# Altium integrated library Component_2.IntLib: 14 symbols (part 1 of 2)
Pins are listed as number, name and electrical type; pins without a type are passive.

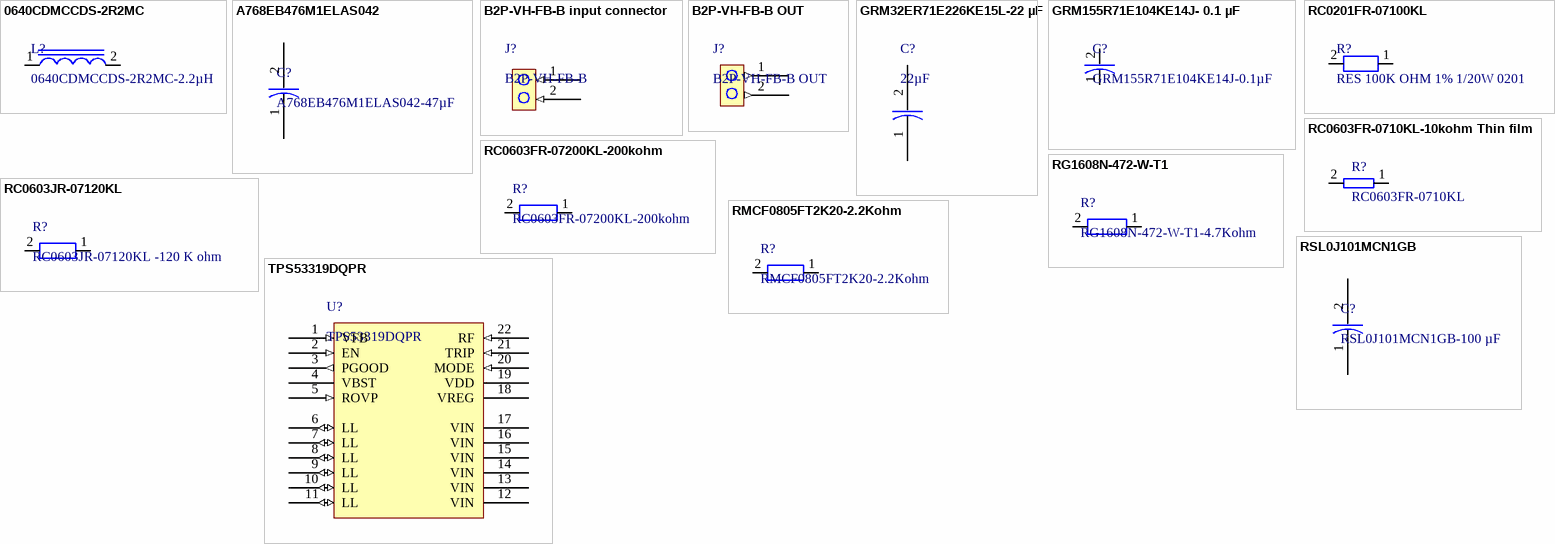
[diagram p0: symbols 0640CDMCCDS-2R2MC to TPS53319DQPR]

## 0640CDMCCDS-2R2MC
designator L?, comment 0640CDMCCDS-2R2MC-2.2µH
Inductor Power Shielded/Molded Wirewound 2.2uH 20% 100KHz Metal 12A 0.0108Ohm DCR T/R; Manufacturer: Sumida; DC Resistance (DCR): 10.8mΩ; Value: 2.2µH; Number of Circuits: 1; Supplier: DigiKey; Supplier Part Number: 308-0640CDMCCDS-2R2MCCT-ND; Manufacturer Part Number: 0640CDMCCDS-2R2MC; RoHS: Compliant; Category: Fixed Inductors; Stock: 4702; Pricing: 1=0.78, 10=0.642, 100=0.5283 (USD); Case/Package: 2826; Height: 3.8mm; Length: 7mm; Lifecycle Status: Production; Max Current Rating: 12A; Max Operating Temperature: 125°C; Min Operating Temperature: -55°C; Number of Terminals: 2; Shielding: Shielded; Test Frequency: 100kHz; Tolerance: 20%; Width: 6.6mm; ComponentLink1URL: https://datasheet.octopart.com:443/0640CDMCCDS-2R2MC-Sumida-datasheet-181250634.pdf?src-supplier=IHS; ComponentLink1Description: https://datasheet.octopart.com:443/0640CDMCCDS-2R2MC-Sumida-datasheet-181250634.pdf?src-supplier=IHS; Supplier 1: DigiKey; Supplier Part Number 1: 308-0640CDMCCDS-2R2MCCT-ND
footprint 0640CDMCCDS-2R2MC-2.2uh Metal molding inductor (Molded Inductor, 2-Leads, Body 7.25x6.50mm, IPC Medium Density)
pins: 1, 2

## A768EB476M1ELAS042
designator C?, comment A768EB476M1ELAS042-47µF
Tant Poly Cap, 47 Uf, 25V, 1.175A, Solder Rohs Compliant: Yes |Kemet A768EB476M1ELAS042; Manufacturer: Yageo Group; Value: 47µF; ESR (Equivalent Series Resistance): 42mΩ; Leakage Current: 235µA; Ripple Current: 58.75mA; ComponentLink6URL: https://datasheet.octopart.com:443/EEHZK1E471P-Panasonic-datasheet-137716607.pdf?src-supplier=TME; ComponentLink6Description: https://datasheet.octopart.com:443/EEHZK1E471P-Panasonic-datasheet-137716607.pdf?src-supplier=TME; Supplier: DigiKey; Supplier Part Number: 399-A768EB476M1ELAS042CT-ND; Manufacturer Part Number: A768EB476M1ELAS042; RoHS: Compliant; Category: Aluminum Electrolytic Capacitors; Stock: 8816; Pricing: 1=0.54, 10=0.337, 50=0.2494, 100=0.2218, 500=0.17396 (USD); Export Control Classification Number (ECCN) Code: EAR99; Height: 5.7mm; Introduction Date: 2020-02-04; Length: 6.6mm; Lifecycle Status: Production; Max Operating Temperature: 125°C; Min Operating Temperature: -55°C; Mounting Technology: Surface Mount; Number of Terminals: 2; Ratings: AEC-Q200; REACH SVHC: Yes; Voltage Rating (DC): 25V; Width: 6.6mm; ComponentLink1URL: https://datasheet.octopart.com:443/A768EB476M1ELAS042-KEMET-datasheet-182036773.pdf?src-supplier=IHS; ComponentLink1Description: https://datasheet.octopart.com:443/A768EB476M1ELAS042-KEMET-datasheet-182036773.pdf?src-supplier=IHS; ComponentLink2URL: https://datasheet.octopart.com:443/A768EB476M1ELAS042-KEMET-datasheet-192944601.pdf?src-supplier=element14+APAC; ComponentLink2Description: https://datasheet.octopart.com:443/A768EB476M1ELAS042-KEMET-datasheet-192944601.pdf?src-supplier=element14+APAC; Supplier 1: DigiKey; Supplier Part Number 1: 399-A768EB476M1ELAS042CT-ND
footprint A768EB476M1ELAS042 -47uf ceramic capacitor
pins: 1, 2

## B2P-VH-FB-B input connector
designator J?, comment B2P-VH-FB-B
Conn Shrouded Header (4 Sides) HDR 2 POS 3.96mm Solder ST Top Entry Thru-Hole Box; Manufacturer: JST; Manufacturer Part Number: B2P-VH-FB-B(LF)(SN); Connector Type: Male Pin; Current Rating: 10A; Gender: Male; Number of Contacts: 2; Pitch: 3.9624mm; Voltage Rating: 250V; Supplier 1: Future Electronics; Supplier Part Number 1: B2P-VH-FB-B(LF)(SN); Supplier: Future Electronics; Supplier Part Number: B2P-VH-FB-B(LF)(SN); RoHS: Compliant; Category: Headers and Wire Housings; Stock: 2504; Pricing: 250=0.11, 1000=0.106, 2500=0.104, 6250=0.101, 10000=0.0975 (USD); China RoHS: Compliant; Color: Natural; Contact Material: Brass; Contact Plating: Tin; Country of Origin: Indonesia; Export Control Classification Number (ECCN) Code: EAR99; Fastening Type: Ramp; Height: 11mm; Harmonized Tariff Schedule (HTS) Code: 8536.69.40.40; Introduction Date: 2010-03-26; Lead Free: Lead Free; Lifecycle Status: Production; Max Operating Temperature: 85°C; Min Operating Temperature: -25°C; Mounting Technology: Through Hole; Pins: 2; Number of Positions: 2; Number of Rows: 1; Orientation: Straight; REACH SVHC: Yes; Terminal Pitch: 3.96mm; Termination: Solder; ComponentLink1URL: https://datasheet.octopart.com:443/B2P-VH-FB-B%28LF%29%28SN%29-JST-datasheet-41193408.pdf?src-supplier=IHS; ComponentLink1Description: https://datasheet.octopart.com:443/B2P-VH-FB-B%28LF%29%28SN%29-JST-datasheet-41193408.pdf?src-supplier=IHS; ComponentLink2URL: https://datasheet.octopart.com:443/B2P-VH-FB-B%28LF%29%28SN%29-JST-datasheet-151658475.pdf?src-supplier=LKR; ComponentLink2Description: https://datasheet.octopart.com:443/B2P-VH-FB-B%28LF%29%28SN%29-JST-datasheet-151658475.pdf?src-supplier=LKR; ComponentLink3URL: https://datasheet.octopart.com:443/B2P-VH-FB-B%28LF%29%28SN%29-JST-datasheet-12513069.pdf?src-supplier=Future+Electronics; ComponentLink3Description: https://datasheet.octopart.com:443/B2P-VH-FB-B%28LF%29%28SN%29-JST-datasheet-12513069.pdf?src-supplier=Future+Electronics; ComponentLink4URL: https://datasheet.octopart.com:443/B2P-VH-FB-B%28LF%29%28SN%29-JST-datasheet-10025879.pdf?src-supplier=Future+Electronics; ComponentLink4Description: https://datasheet.octopart.com:443/B2P-VH-FB-B%28LF%29%28SN%29-JST-datasheet-10025879.pdf?src-supplier=Future+Electronics; ComponentLink5URL: https://datasheet.octopart.com:443/B2P-VH-FB-B%28LF%29%28SN%29-JST-datasheet-5332680.pdf?src-supplier=Future+Electronics; ComponentLink5Description: https://datasheet.octopart.com:443/B2P-VH-FB-B%28LF%29%28SN%29-JST-datasheet-5332680.pdf?src-supplier=Future+Electronics; ComponentLink6URL: https://datasheet.octopart.com:443/B2P-VH-FB-B%28LF%29%28SN%29-JST-datasheet-16979.pdf?src-supplier=Future+Electronics; ComponentLink6Description: https://datasheet.octopart.com:443/B2P-VH-FB-B%28LF%29%28SN%29-JST-datasheet-16979.pdf?src-supplier=Future+Electronics
footprint B2P-VH-FB-B input -2 pin connector.
pins: 1 (in), 2 (in)

## B2P-VH-FB-B OUT
designator J?
Conn Shrouded Header (4 Sides) HDR 2 POS 3.96mm Solder ST Top Entry Thru-Hole Box; Manufacturer: JST; Manufacturer Part Number: B2P-VH-FB-B(LF)(SN); Connector Type: Male Pin; Current Rating: 10A; Gender: Male; Number of Contacts: 2; Pitch: 3.9624mm; Voltage Rating: 250V; Supplier: Future Electronics; Supplier Part Number: B2P-VH-FB-B(LF)(SN); RoHS: Compliant; Category: Headers and Wire Housings; Stock: 2504; Pricing: 250=0.11, 1000=0.106, 2500=0.104, 6250=0.101, 10000=0.0975 (USD); China RoHS: Compliant; Color: Natural; Contact Material: Brass; Contact Plating: Tin; Country of Origin: Indonesia; Export Control Classification Number (ECCN) Code: EAR99; Fastening Type: Ramp; Height: 11mm; Harmonized Tariff Schedule (HTS) Code: 8536.69.40.40; Introduction Date: 2010-03-26; Lead Free: Lead Free; Lifecycle Status: Production; Max Operating Temperature: 85°C; Min Operating Temperature: -25°C; Mounting Technology: Through Hole; Pins: 2; Number of Positions: 2; Number of Rows: 1; Orientation: Straight; REACH SVHC: Yes; Terminal Pitch: 3.96mm; Termination: Solder; ComponentLink1URL: https://datasheet.octopart.com:443/B2P-VH-FB-B%28LF%29%28SN%29-JST-datasheet-41193408.pdf?src-supplier=IHS; ComponentLink1Description: https://datasheet.octopart.com:443/B2P-VH-FB-B%28LF%29%28SN%29-JST-datasheet-41193408.pdf?src-supplier=IHS; ComponentLink2URL: https://datasheet.octopart.com:443/B2P-VH-FB-B%28LF%29%28SN%29-JST-datasheet-151658475.pdf?src-supplier=LKR; ComponentLink2Description: https://datasheet.octopart.com:443/B2P-VH-FB-B%28LF%29%28SN%29-JST-datasheet-151658475.pdf?src-supplier=LKR; ComponentLink3URL: https://datasheet.octopart.com:443/B2P-VH-FB-B%28LF%29%28SN%29-JST-datasheet-12513069.pdf?src-supplier=Future+Electronics; ComponentLink3Description: https://datasheet.octopart.com:443/B2P-VH-FB-B%28LF%29%28SN%29-JST-datasheet-12513069.pdf?src-supplier=Future+Electronics; ComponentLink4URL: https://datasheet.octopart.com:443/B2P-VH-FB-B%28LF%29%28SN%29-JST-datasheet-10025879.pdf?src-supplier=Future+Electronics; ComponentLink4Description: https://datasheet.octopart.com:443/B2P-VH-FB-B%28LF%29%28SN%29-JST-datasheet-10025879.pdf?src-supplier=Future+Electronics; ComponentLink5URL: https://datasheet.octopart.com:443/B2P-VH-FB-B%28LF%29%28SN%29-JST-datasheet-5332680.pdf?src-supplier=Future+Electronics; ComponentLink5Description: https://datasheet.octopart.com:443/B2P-VH-FB-B%28LF%29%28SN%29-JST-datasheet-5332680.pdf?src-supplier=Future+Electronics; ComponentLink6URL: https://datasheet.octopart.com:443/B2P-VH-FB-B%28LF%29%28SN%29-JST-datasheet-16979.pdf?src-supplier=Future+Electronics; ComponentLink6Description: https://datasheet.octopart.com:443/B2P-VH-FB-B%28LF%29%28SN%29-JST-datasheet-16979.pdf?src-supplier=Future+Electronics; Supplier 1: Future Electronics; Supplier Part Number 1: B2P-VH-FB-B(LF)(SN)
footprint B2P-VH-FB-B OUT-2 pin connector.
pins: 1 (out), 2 (out)

## GRM32ER71E226KE15L-22 µF
designator C?, comment 22µF
25V 22µF X7R ±10% 1210 Multilayer Ceramic Capacitors MLCC - SMD/SMT ROHS; Manufacturer: Murata; Manufacturer Part Number: GRM32ER71E226KE15L; Manufacturer Lifecycle Status: IN PRODUCTION; Color: Black; Current Rating: 3A; Gender: Male; Supplier: DigiKey; Supplier Part Number: 490-5313-6-ND; RoHS: Compliant; Category: Ceramic Capacitors; Stock: 107975; Pricing: 1=0.76, 10=0.477, 50=0.3648, 100=0.3303, 500=0.27204 (USD); Value: 22µF; Case/Package: 1210; Case Code (Imperial): 1210; Case Code (Metric): 3225; Contact Material: Bronze; Contact Plating: Gold; Country of Origin: Singapore; Depth: 2.5mm; Dielectric: X7R; Dielectric Material: Ceramic; Export Control Classification Number (ECCN) Code: EAR99; Height: 2.5mm; Harmonized Tariff Schedule (HTS) Code: 8532.24.00.20; Introduction Date: 2009-02-19; Lead Free: Lead Free; Lead Pitch: 2.54mm; Length: 3.2mm; Lifecycle Status: Production; Material: Ceramic; Max Operating Temperature: 125°C; Min Operating Temperature: -55°C; Mounting Technology: Surface Mount; Pins: 2; Number of Terminals: 2; Packaging: Cut Tape; Radiation Hardening: No; REACH SVHC: Yes; Schedule B: 8532240020, 8532240020|8532240020, 8532240020|8532240020|8532240020, 8532240020|8532240020|8532240020|8532240020; Termination: SMD/SMT; Thickness: 2.5mm; Tolerance: 10%; Voltage: 25V; Voltage Rating: 25V; Voltage Rating (DC): 25V; Width: 2.5mm; ComponentLink1URL: https://datasheet.octopart.com:443/GRM32ER71E226KE15L-Murata-datasheet-141422401.pdf?src-supplier=Upverter; ComponentLink1Description: https://datasheet.octopart.com:443/GRM32ER71E226KE15L-Murata-datasheet-141422401.pdf?src-supplier=Upverter; ComponentLink2URL: https://datasheet.octopart.com:443/GRM32ER71E226KE15L-Murata-datasheet-12536533.pdf?src-supplier=Factory+Futures; ComponentLink2Description: https://datasheet.octopart.com:443/GRM32ER71E226KE15L-Murata-datasheet-12536533.pdf?src-supplier=Factory+Futures; ComponentLink3URL: https://datasheet.octopart.com:443/GRM32ER71E226KE15L-Murata-datasheet-62317415.pdf?src-supplier=element14+APAC; ComponentLink3Description: https://datasheet.octopart.com:443/GRM32ER71E226KE15L-Murata-datasheet-62317415.pdf?src-supplier=element14+APAC; ComponentLink4URL: https://datasheet.octopart.com:443/GRM32ER71E226KE15L-Murata-datasheet-14713250.pdf?src-supplier=element14+APAC; ComponentLink4Description: https://datasheet.octopart.com:443/GRM32ER71E226KE15L-Murata-datasheet-14713250.pdf?src-supplier=element14+APAC; ComponentLink5URL: https://datasheet.octopart.com:443/GRM32ER71E226KE15L-Murata-datasheet-141281608.pdf?src-supplier=Geoflip; ComponentLink5Description: https://datasheet.octopart.com:443/GRM32ER71E226KE15L-Murata-datasheet-141281608.pdf?src-supplier=Geoflip; ComponentLink6URL: https://datasheet.octopart.com:443/GRM32ER71E226KE15L-Murata-datasheet-8814637.pdf?src-supplier=Newark; ComponentLink6Description: https://datasheet.octopart.com:443/GRM32ER71E226KE15L-Murata-datasheet-8814637.pdf?src-supplier=Newark; ComponentLink7URL: https://datasheet.octopart.com:443/GRM32ER71E226KE15L-Murata-datasheet-14403038.pdf?src-supplier=Future+Electronics; ComponentLink7Description: https://datasheet.octopart.com:443/GRM32ER71E226KE15L-Murata-datasheet-14403038.pdf?src-supplier=Future+Electronics; ComponentLink8URL: https://datasheet.octopart.com:443/GRM32ER71E226KE15L-Murata-datasheet-22122223.pdf?src-supplier=Future+Electronics; ComponentLink8Description: https://datasheet.octopart.com:443/GRM32ER71E226KE15L-Murata-datasheet-22122223.pdf?src-supplier=Future+Electronics; ComponentLink9URL: https://datasheet.octopart.com:443/GRM32ER71E226KE15L-Murata-datasheet-165579666.pdf?src-supplier=TME; ComponentLink9Description: https://datasheet.octopart.com:443/GRM32ER71E226KE15L-Murata-datasheet-165579666.pdf?src-supplier=TME; ComponentLink10URL: https://datasheet.octopart.com:443/GRM32ER71E226KE15L-Murata-datasheet-59876780.pdf?src-supplier=TME; ComponentLink10Description: https://datasheet.octopart.com:443/GRM32ER71E226KE15L-Murata-datasheet-59876780.pdf?src-supplier=TME; ComponentLink11URL: https://datasheet.octopart.com:443/GRM32ER71E226KE15L-Murata-datasheet-140709638.pdf?src-supplier=Ciiva; ComponentLink11Description: https://datasheet.octopart.com:443/GRM32ER71E226KE15L-Murata-datasheet-140709638.pdf?src-supplier=Ciiva; ComponentLink12URL: https://datasheet.octopart.com:443/GRM32ER71E226KE15L-Murata-datasheet-138747041.pdf?src-supplier=Ciiva; ComponentLink12Description: https://datasheet.octopart.com:443/GRM32ER71E226KE15L-Murata-datasheet-138747041.pdf?src-supplier=Ciiva; ComponentLink13URL: https://datasheet.octopart.com/GRM32ER71E226KE15L-Murata-datasheet-12515295.pdf; ComponentLink13Description: https://datasheet.octopart.com/GRM32ER71E226KE15L-Murata-datasheet-12515295.pdf; ComponentLink14URL: https://datasheet.octopart.com/GRM32ER71E226KE15L-Murata-datasheet-12510076.pdf; ComponentLink14Description: https://datasheet.octopart.com/GRM32ER71E226KE15L-Murata-datasheet-12510076.pdf; ComponentLink15URL: https://datasheet.octopart.com/GRM32ER71E226KE15L-Murata-datasheet-11978611.pdf; ComponentLink15Description: https://datasheet.octopart.com/GRM32ER71E226KE15L-Murata-datasheet-11978611.pdf; ComponentLink16URL: https://datasheet.octopart.com/GRM32ER71E226KE15L-Murata-datasheet-10025737.pdf; ComponentLink16Description: https://datasheet.octopart.com/GRM32ER71E226KE15L-Murata-datasheet-10025737.pdf; ComponentLink17URL: https://datasheet.octopart.com/GRM32ER71E226KE15L-Murata-datasheet-8819587.pdf; ComponentLink17Description: https://datasheet.octopart.com/GRM32ER71E226KE15L-Murata-datasheet-8819587.pdf; ComponentLink18URL: http://sigma.octopart.com:80/reach_statement/Murata-company-16.pdf?src-supplier=Compliance+Statements; ComponentLink18Description: http://sigma.octopart.com:80/reach_statement/Murata-company-16.pdf?src-supplier=Compliance+Statements; Supplier 1: DigiKey; Supplier Part Number 1: 490-5313-6-ND
footprint GRM32ER71E226KE15L-22 µF ceramic capacitor
pins: 1, 2

## GRM155R71E104KE14J- 0.1 µF
designator C?, comment GRM155R71E104KE14J-0.1µF
0402 0.1 uF 25 V ±10% Tolerance X7R SMT Multilayer Ceramic Capacitor; Manufacturer: Murata; Manufacturer Lifecycle Status: IN PRODUCTION; Value: 100nF; Voltage Rating: 25V; Supplier: DigiKey; Supplier Part Number: 490-14603-2-ND; Manufacturer Part Number: GRM155R71E104KE14J; RoHS: Compliant; Category: Ceramic Capacitors; Stock: 1424920; Pricing: 50000=0.00435, 100000=0.00402, 150000=0.00386, 250000=0.00368, 350000=0.00357, 500000=0.00347 (USD); Case/Package: 0402; Case Code (Imperial): 0402; Case Code (Metric): 1005; Composition: Ceramic; Dielectric: X7R; Dielectric Material: Ceramic; Height: 500µm; Length: 1mm; Lifecycle Status: Production; Material: Ceramic; Max Operating Temperature: 125°C; Min Operating Temperature: -55°C; Mounting Technology: Surface Mount; Pins: 2; Number of Terminals: 2; Packaging: Tape & Reel (TR); REACH SVHC: Yes; Schedule B: 8532240020, 8532240020|8532240020, 8532240020|8532240020|8532240020, 8532240020|8532240020|8532240020|8532240020; Termination: SMD/SMT; Thickness: 500µm; Tolerance: 10%; Voltage Rating (DC): 25V; Weight: 6.010099mg; Width: 500µm; ComponentLink1URL: https://datasheet.octopart.com:443/GRM155R71E104KE14J-Murata-datasheet-155345056.pdf?src-supplier=Newark; ComponentLink1Description: https://datasheet.octopart.com:443/GRM155R71E104KE14J-Murata-datasheet-155345056.pdf?src-supplier=Newark; ComponentLink2URL: https://datasheet.octopart.com:443/GRM155R71E104KE14J-Murata-datasheet-165579666.pdf?src-supplier=TME; ComponentLink2Description: https://datasheet.octopart.com:443/GRM155R71E104KE14J-Murata-datasheet-165579666.pdf?src-supplier=TME; ComponentLink3URL: https://datasheet.octopart.com:443/GRM155R71E104KE14J-Murata-datasheet-141266224.pdf?src-supplier=Ciiva; ComponentLink3Description: https://datasheet.octopart.com:443/GRM155R71E104KE14J-Murata-datasheet-141266224.pdf?src-supplier=Ciiva; ComponentLink4URL: https://datasheet.octopart.com:443/GRM155R71E104KE14J-Murata-datasheet-140691366.pdf?src-supplier=Ciiva; ComponentLink4Description: https://datasheet.octopart.com:443/GRM155R71E104KE14J-Murata-datasheet-140691366.pdf?src-supplier=Ciiva; ComponentLink5URL: https://datasheet.octopart.com:443/GRM155R71E104KE14J-Murata-datasheet-138740936.pdf?src-supplier=Ciiva; ComponentLink5Description: https://datasheet.octopart.com:443/GRM155R71E104KE14J-Murata-datasheet-138740936.pdf?src-supplier=Ciiva; ComponentLink6URL: https://datasheet.octopart.com/GRM155R71E104KE14J-Murata-datasheet-12515295.pdf; ComponentLink6Description: https://datasheet.octopart.com/GRM155R71E104KE14J-Murata-datasheet-12515295.pdf; ComponentLink7URL: https://datasheet.octopart.com/GRM155R71E104KE14J-Murata-datasheet-12510076.pdf; ComponentLink7Description: https://datasheet.octopart.com/GRM155R71E104KE14J-Murata-datasheet-12510076.pdf; ComponentLink8URL: https://datasheet.octopart.com/GRM155R71E104KE14J-Murata-datasheet-11978611.pdf; ComponentLink8Description: https://datasheet.octopart.com/GRM155R71E104KE14J-Murata-datasheet-11978611.pdf; ComponentLink9URL: https://datasheet.octopart.com/GRM155R71E104KE14J-Murata-datasheet-10025737.pdf; ComponentLink9Description: https://datasheet.octopart.com/GRM155R71E104KE14J-Murata-datasheet-10025737.pdf; ComponentLink10URL: https://datasheet.octopart.com/GRM155R71E104KE14J-Murata-datasheet-8819587.pdf; ComponentLink10Description: https://datasheet.octopart.com/GRM155R71E104KE14J-Murata-datasheet-8819587.pdf; ComponentLink11URL: https://datasheet.octopart.com/GRM155R71E104KE14J-Murata-datasheet-15634843.pdf; ComponentLink11Description: https://datasheet.octopart.com/GRM155R71E104KE14J-Murata-datasheet-15634843.pdf; ComponentLink12URL: https://datasheet.octopart.com:443/GRM155R71E104KE14J-Murata-datasheet-144363483.pdf?src-supplier=Arrow.cn; ComponentLink12Description: https://datasheet.octopart.com:443/GRM155R71E104KE14J-Murata-datasheet-144363483.pdf?src-supplier=Arrow.cn; ComponentLink13URL: http://sigma.octopart.com:80/reach_statement/Murata-company-16.pdf?src-supplier=Compliance+Statements; ComponentLink13Description: http://sigma.octopart.com:80/reach_statement/Murata-company-16.pdf?src-supplier=Compliance+Statements; Supplier 1: DigiKey; Supplier Part Number 1: 490-14603-1-ND
footprint GRM155R71H104KE14-0.1uf ceramic capacitor
pins: 1, 2

## RC0201FR-07100KL
designator R?, comment RES 100K OHM 1% 1/20W 0201
50mW Thick Film Resistors 25V ±1% ±200ppm/℃ 100kΩ 0201 Chip Resistor - Surface Mount ROHS; Manufacturer: Yageo Group; Manufacturer Part Number: RC0201FR-07100KL; Temperature Coefficient: 200ppm/°C; Supplier: DigiKey; Supplier Part Number: 311-100KMTR-ND; RoHS: Compliant; Category: Chip SMD Resistors; Stock: 1925303; Pricing: 10000=0.00589, 20000=0.00534, 30000=0.00508, 50000=0.00479, 70000=0.00462, 100000=0.00447 (USD); Case/Package: 0201; Case Code (Imperial): 0201; Case Code (Metric): 0603; China RoHS: Non-Compliant; Composition: Thick Film; Contact Plating: Tin; Depth: 300µm; Features: Moisture Resistant; Height: 230µm; Lead Free: Lead Free; Length: 600µm; Lifecycle Status: Production; Max Operating Temperature: 125°C; Max Power Dissipation: 50mW; Military Standard: Not; Min Operating Temperature: -55°C; Mounting Technology: Surface Mount; Pins: 2; Number of Terminals: 2; Number of Terminations: 2; Packaging: Tape & Reel; Power Rating: 50mW; REACH SVHC: Yes; Value: 100kΩ; Schedule B: 8533210045, 8533210045|8533210045|8533210045|8533210045|8533210045|8533210045|8533210045|8533210045|8533210045|8533210045|8533210045|8533210045|8533210045|8533210045, 8533210045|8533210045|8533210045|8533210045|8533210045|8533210045|8533210045|8533210045|8533210045|8533210045|8533210045|8533210045|8533210045|8533210045|8533210045, 8533210045|8533210045|8533210045|8533210045|8533210045|8533210045|8533210045|8533210045|8533210045|8533210045|8533210045|8533210045|8533210045|8533210045|8533210045|8533210045; Termination: SMD/SMT; Tolerance: 1%; Voltage Rating: 25V; Voltage Rating (DC): 25V; Width: 300µm; Working Voltage: 25V; ComponentLink1URL: https://datasheet.octopart.com:443/RC0201FR-07100KL-Yageo-datasheet-175887523.pdf?src-supplier=IHS; ComponentLink1Description: https://datasheet.octopart.com:443/RC0201FR-07100KL-Yageo-datasheet-175887523.pdf?src-supplier=IHS; ComponentLink2URL: https://datasheet.octopart.com:443/RC0201FR-07100KL-Yageo-datasheet-12509713.pdf?src-supplier=element14+APAC; ComponentLink2Description: https://datasheet.octopart.com:443/RC0201FR-07100KL-Yageo-datasheet-12509713.pdf?src-supplier=element14+APAC; ComponentLink3URL: https://datasheet.octopart.com:443/RC0201FR-07100KL-Yageo-datasheet-62067350.pdf?src-supplier=element14+APAC; ComponentLink3Description: https://datasheet.octopart.com:443/RC0201FR-07100KL-Yageo-datasheet-62067350.pdf?src-supplier=element14+APAC; ComponentLink4URL: https://datasheet.octopart.com:443/RC0201FR-07100KL-Yageo-datasheet-10911895.pdf?src-supplier=element14+APAC; ComponentLink4Description: https://datasheet.octopart.com:443/RC0201FR-07100KL-Yageo-datasheet-10911895.pdf?src-supplier=element14+APAC; ComponentLink5URL: https://datasheet.octopart.com:443/RC0201FR-07100KL-Yageo-datasheet-13314888.pdf?src-supplier=Upverter; ComponentLink5Description: https://datasheet.octopart.com:443/RC0201FR-07100KL-Yageo-datasheet-13314888.pdf?src-supplier=Upverter; ComponentLink6URL: https://datasheet.octopart.com:443/RC0201FR-07100KL-Yageo-datasheet-12549147.pdf?src-supplier=Upverter; ComponentLink6Description: https://datasheet.octopart.com:443/RC0201FR-07100KL-Yageo-datasheet-12549147.pdf?src-supplier=Upverter; ComponentLink7URL: https://datasheet.octopart.com:443/RC0201FR-07100KL-Yageo-datasheet-12509741.pdf?src-supplier=Upverter; ComponentLink7Description: https://datasheet.octopart.com:443/RC0201FR-07100KL-Yageo-datasheet-12509741.pdf?src-supplier=Upverter; ComponentLink8URL: https://datasheet.octopart.com:443/RC0201FR-07100KL-Yageo-Group-datasheet-190305687.pdf?src-supplier=Newark; ComponentLink8Description: https://datasheet.octopart.com:443/RC0201FR-07100KL-Yageo-Group-datasheet-190305687.pdf?src-supplier=Newark; ComponentLink9URL: https://datasheet.octopart.com:443/RC0201FR-07100KL-Yageo-datasheet-10025917.pdf?src-supplier=Newark; ComponentLink9Description: https://datasheet.octopart.com:443/RC0201FR-07100KL-Yageo-datasheet-10025917.pdf?src-supplier=Newark; ComponentLink10URL: https://datasheet.octopart.com:443/RC0201FR-07100KL-Yageo-Group-datasheet-176638170.pdf?src-supplier=Future+Electronics; ComponentLink10Description: https://datasheet.octopart.com:443/RC0201FR-07100KL-Yageo-Group-datasheet-176638170.pdf?src-supplier=Future+Electronics; ComponentLink11URL: https://datasheet.octopart.com:443/RC0201FR-07100KL-Yageo-datasheet-164759695.pdf?src-supplier=Future+Electronics; ComponentLink11Description: https://datasheet.octopart.com:443/RC0201FR-07100KL-Yageo-datasheet-164759695.pdf?src-supplier=Future+Electronics; ComponentLink12URL: https://datasheet.octopart.com:443/RC0201FR-07100KL-Yageo-datasheet-127823281.pdf?src-supplier=Future+Electronics; ComponentLink12Description: https://datasheet.octopart.com:443/RC0201FR-07100KL-Yageo-datasheet-127823281.pdf?src-supplier=Future+Electronics; ComponentLink13URL: https://datasheet.octopart.com:443/RC0201FR-07100KL-Yageo-datasheet-137700087.pdf?src-supplier=Future+Electronics; ComponentLink13Description: https://datasheet.octopart.com:443/RC0201FR-07100KL-Yageo-datasheet-137700087.pdf?src-supplier=Future+Electronics; ComponentLink14URL: https://datasheet.octopart.com:443/RC0201FR-07100KL-Yageo-datasheet-103092701.pdf?src-supplier=Future+Electronics; ComponentLink14Description: https://datasheet.octopart.com:443/RC0201FR-07100KL-Yageo-datasheet-103092701.pdf?src-supplier=Future+Electronics; ComponentLink15URL: https://datasheet.octopart.com:443/RC0201FR-07100KL-Yageo-datasheet-98239111.pdf?src-supplier=Future+Electronics; ComponentLink15Description: https://datasheet.octopart.com:443/RC0201FR-07100KL-Yageo-datasheet-98239111.pdf?src-supplier=Future+Electronics; ComponentLink16URL: https://datasheet.octopart.com:443/RC0201FR-07100KL-Yageo-datasheet-44382975.pdf?src-supplier=Future+Electronics; ComponentLink16Description: https://datasheet.octopart.com:443/RC0201FR-07100KL-Yageo-datasheet-44382975.pdf?src-supplier=Future+Electronics; ComponentLink17URL: https://datasheet.octopart.com:443/RC0201FR-07100KL-Yageo-datasheet-41589693.pdf?src-supplier=Future+Electronics; ComponentLink17Description: https://datasheet.octopart.com:443/RC0201FR-07100KL-Yageo-datasheet-41589693.pdf?src-supplier=Future+Electronics; ComponentLink18URL: https://datasheet.octopart.com:443/RC0201FR-07100KL-Yageo-datasheet-37140709.pdf?src-supplier=Future+Electronics; ComponentLink18Description: https://datasheet.octopart.com:443/RC0201FR-07100KL-Yageo-datasheet-37140709.pdf?src-supplier=Future+Electronics; ComponentLink19URL: https://datasheet.octopart.com:443/RC0201FR-07100KL-Yageo-datasheet-12590898.pdf?src-supplier=Future+Electronics; ComponentLink19Description: https://datasheet.octopart.com:443/RC0201FR-07100KL-Yageo-datasheet-12590898.pdf?src-supplier=Future+Electronics; ComponentLink20URL: https://datasheet.octopart.com:443/RC0201FR-07100KL-Yageo-datasheet-5319114.pdf?src-supplier=Future+Electronics; ComponentLink20Description: https://datasheet.octopart.com:443/RC0201FR-07100KL-Yageo-datasheet-5319114.pdf?src-supplier=Future+Electronics; ComponentLink21URL: https://datasheet.octopart.com:443/RC0201FR-07100KL-Yageo-datasheet-12535854.pdf?src-supplier=Future+Electronics; ComponentLink21Description: https://datasheet.octopart.com:443/RC0201FR-07100KL-Yageo-datasheet-12535854.pdf?src-supplier=Future+Electronics; ComponentLink22URL: https://datasheet.octopart.com:443/RC0201FR-07100KL-Yageo-datasheet-148775077.pdf?src-supplier=TME; ComponentLink22Description: https://datasheet.octopart.com:443/RC0201FR-07100KL-Yageo-datasheet-148775077.pdf?src-supplier=TME; ComponentLink23URL: https://datasheet.octopart.com/RC0201FR-07100KL-Yageo-datasheet-73766026.pdf; ComponentLink23Description: https://datasheet.octopart.com/RC0201FR-07100KL-Yageo-datasheet-73766026.pdf; ComponentLink24URL: https://datasheet.octopart.com:443/RC0201FR-07100KL-Yageo-datasheet-8701561.pdf?src-supplier=element14; ComponentLink24Description: https://datasheet.octopart.com:443/RC0201FR-07100KL-Yageo-datasheet-8701561.pdf?src-supplier=element14; ComponentLink25URL: http://sigma.octopart.com:80/conflict_mineral_statement/Yageo-company-3.pdf?src-supplier=Compliance+Statements; ComponentLink25Description: http://sigma.octopart.com:80/conflict_mineral_statement/Yageo-company-3.pdf?src-supplier=Compliance+Statements; ComponentLink26URL: http://sigma.octopart.com:80/rohs_statement/Yageo-company-2.pdf?src-supplier=Compliance+Statements; ComponentLink26Description: http://sigma.octopart.com:80/rohs_statement/Yageo-company-2.pdf?src-supplier=Compliance+Statements; Supplier 1: DigiKey; Supplier Part Number 1: 311-100KMTR-ND
footprint RG1608N-104-W-T5-100kohm
pins: 1, 2

## RC0603FR-0710KL-10kohm Thin film
designator R?, comment RC0603FR-0710KL
100mW Thick Film Resistors ±100ppm/℃ ±1% 10kΩ 0603 Chip Resistor - Surface Mount ROHS; Manufacturer: Yageo Group; Temperature Coefficient: 100ppm/°C; Voltage Rating: 75V; Voltage Rating (DC): 50V; Supplier: DigiKey; Supplier Part Number: 311-10.0KHRTR-ND; Manufacturer Part Number: RC0603FR-0710KL; RoHS: Compliant; Category: Chip SMD Resistors; Stock: 11777314; Pricing: 5000=0.00469, 10000=0.00414, 15000=0.00387, 25000=0.00358, 35000=0.00342, 50000=0.00326 (USD); Case/Package: 0603; Case Code (Imperial): 0603; Case Code (Metric): 0603; China RoHS: Non-Compliant; Composition: Thick Film; Contact Plating: Tin; Depth: 800µm; Height: 450µm; Lead Free: Lead Free; Lead Pitch: 300µm; Length: 1.6mm; Lifecycle Status: Production; Max Operating Temperature: 155°C; Military Standard: Not; Min Operating Temperature: -55°C; Mounting Technology: Surface Mount; Pins: 2; Number of Terminals: 2; Packaging: Tape & Reel; Power Rating: 100mW; Radiation Hardening: No; REACH SVHC: Yes; Value: 10kΩ; Schedule B: 8533210045, 8533210045|8533210045|8533210045|8533210045|8533210045|8533210045|8533210045|8533210045|8533210045|8533210045|8533210045|8533210045|8533210045|8533210045|8533210045|8533210045|8533210045|8533210045|8533210045|8533210045|8533210045|8533210045|8533210045|85; Termination: SMD/SMT; Tolerance: 1%; Weight: 2.012816mg; Width: 800µm; Working Voltage: 75V; ComponentLink1URL: https://datasheet.octopart.com:443/RC0603FR-0710KL-Yageo-datasheet-175887523.pdf?src-supplier=IHS; ComponentLink1Description: https://datasheet.octopart.com:443/RC0603FR-0710KL-Yageo-datasheet-175887523.pdf?src-supplier=IHS; ComponentLink2URL: https://datasheet.octopart.com:443/RC0603FR-0710KL-Yageo-datasheet-103092701.pdf?src-supplier=Upverter; ComponentLink2Description: https://datasheet.octopart.com:443/RC0603FR-0710KL-Yageo-datasheet-103092701.pdf?src-supplier=Upverter; ComponentLink3URL: https://datasheet.octopart.com:443/RC0603FR-0710KL-Yageo-datasheet-98239111.pdf?src-supplier=Upverter; ComponentLink3Description: https://datasheet.octopart.com:443/RC0603FR-0710KL-Yageo-datasheet-98239111.pdf?src-supplier=Upverter; ComponentLink4URL: https://datasheet.octopart.com:443/RC0603FR-0710KL-Yageo-datasheet-141265859.pdf?src-supplier=Upverter; ComponentLink4Description: https://datasheet.octopart.com:443/RC0603FR-0710KL-Yageo-datasheet-141265859.pdf?src-supplier=Upverter; ComponentLink5URL: https://sigma.octopart.com:443/138820526/technical_drawing/Yageo-RC0603FR-0710KL.pdf?src-supplier=Upverter; ComponentLink5Description: https://sigma.octopart.com:443/138820526/technical_drawing/Yageo-RC0603FR-0710KL.pdf?src-supplier=Upverter; ComponentLink6URL: https://datasheet.octopart.com:443/RC0603FR-0710KL-Yageo-datasheet-8328172.pdf?src-supplier=Farnell; ComponentLink6Description: https://datasheet.octopart.com:443/RC0603FR-0710KL-Yageo-datasheet-8328172.pdf?src-supplier=Farnell; ComponentLink7URL: https://datasheet.octopart.com:443/RC0603FR-0710KL-Yageo-datasheet-13691069.pdf?src-supplier=Farnell; ComponentLink7Description: https://datasheet.octopart.com:443/RC0603FR-0710KL-Yageo-datasheet-13691069.pdf?src-supplier=Farnell; ComponentLink8URL: https://datasheet.octopart.com:443/RC0603FR-0710KL-Yageo-datasheet-62067350.pdf?src-supplier=element14+APAC; ComponentLink8Description: https://datasheet.octopart.com:443/RC0603FR-0710KL-Yageo-datasheet-62067350.pdf?src-supplier=element14+APAC; ComponentLink9URL: https://datasheet.octopart.com:443/RC0603FR-0710KL-Yageo-datasheet-17842380.pdf?src-supplier=element14+APAC; ComponentLink9Description: https://datasheet.octopart.com:443/RC0603FR-0710KL-Yageo-datasheet-17842380.pdf?src-supplier=element14+APAC; ComponentLink10URL: https://datasheet.octopart.com:443/RC0603FR-0710KL-Yageo-datasheet-15599030.pdf?src-supplier=Future+Electronics; ComponentLink10Description: https://datasheet.octopart.com:443/RC0603FR-0710KL-Yageo-datasheet-15599030.pdf?src-supplier=Future+Electronics; ComponentLink11URL: https://datasheet.octopart.com:443/RC0603FR-0710KL-Yageo-Group-datasheet-176638170.pdf?src-supplier=Future+Electronics; ComponentLink11Description: https://datasheet.octopart.com:443/RC0603FR-0710KL-Yageo-Group-datasheet-176638170.pdf?src-supplier=Future+Electronics; ComponentLink12URL: https://datasheet.octopart.com:443/RC0603FR-0710KL-Yageo-datasheet-164759695.pdf?src-supplier=Future+Electronics; ComponentLink12Description: https://datasheet.octopart.com:443/RC0603FR-0710KL-Yageo-datasheet-164759695.pdf?src-supplier=Future+Electronics; ComponentLink13URL: https://datasheet.octopart.com:443/RC0603FR-0710KL-Yageo-datasheet-127823281.pdf?src-supplier=Future+Electronics; ComponentLink13Description: https://datasheet.octopart.com:443/RC0603FR-0710KL-Yageo-datasheet-127823281.pdf?src-supplier=Future+Electronics; ComponentLink14URL: https://datasheet.octopart.com:443/RC0603FR-0710KL-Yageo-datasheet-137700087.pdf?src-supplier=Future+Electronics; ComponentLink14Description: https://datasheet.octopart.com:443/RC0603FR-0710KL-Yageo-datasheet-137700087.pdf?src-supplier=Future+Electronics; ComponentLink15URL: https://datasheet.octopart.com:443/RC0603FR-0710KL-Yageo-datasheet-27584510.pdf?src-supplier=Future+Electronics; ComponentLink15Description: https://datasheet.octopart.com:443/RC0603FR-0710KL-Yageo-datasheet-27584510.pdf?src-supplier=Future+Electronics; ComponentLink16URL: https://datasheet.octopart.com:443/RC0603FR-0710KL-Yageo-datasheet-8324193.pdf?src-supplier=Future+Electronics; ComponentLink16Description: https://datasheet.octopart.com:443/RC0603FR-0710KL-Yageo-datasheet-8324193.pdf?src-supplier=Future+Electronics; ComponentLink17URL: https://datasheet.octopart.com:443/RC0603FR-0710KL-Yageo-datasheet-12596169.pdf?src-supplier=Newark; ComponentLink17Description: https://datasheet.octopart.com:443/RC0603FR-0710KL-Yageo-datasheet-12596169.pdf?src-supplier=Newark; ComponentLink18URL: https://datasheet.octopart.com:443/RC0603FR-0710KL-Yageo-datasheet-503470.pdf?src-supplier=Newark; ComponentLink18Description: https://datasheet.octopart.com:443/RC0603FR-0710KL-Yageo-datasheet-503470.pdf?src-supplier=Newark; ComponentLink19URL: https://datasheet.octopart.com:443/RC0603FR-0710KL-Yageo-datasheet-34211833.pdf?src-supplier=Newark; ComponentLink19Description: https://datasheet.octopart.com:443/RC0603FR-0710KL-Yageo-datasheet-34211833.pdf?src-supplier=Newark; ComponentLink20URL: https://datasheet.octopart.com:443/RC0603FR-0710KL-Yageo-Group-datasheet-189192902.pdf?src-supplier=LCSC; ComponentLink20Description: https://datasheet.octopart.com:443/RC0603FR-0710KL-Yageo-Group-datasheet-189192902.pdf?src-supplier=LCSC; ComponentLink21URL: https://datasheet.octopart.com:443/RC0603FR-0710KL-Yageo-datasheet-79472498.pdf?src-supplier=Megastar; ComponentLink21Description: https://datasheet.octopart.com:443/RC0603FR-0710KL-Yageo-datasheet-79472498.pdf?src-supplier=Megastar; ComponentLink22URL: https://datasheet.octopart.com/RC0603FR-0710KL-Yageo-datasheet-73766026.pdf; ComponentLink22Description: https://datasheet.octopart.com/RC0603FR-0710KL-Yageo-datasheet-73766026.pdf; ComponentLink23URL: https://datasheet.octopart.com:443/RC0603FR-0710KL-Yageo-datasheet-118562.pdf?src-supplier=DigiKey; ComponentLink23Description: https://datasheet.octopart.com:443/RC0603FR-0710KL-Yageo-datasheet-118562.pdf?src-supplier=DigiKey; ComponentLink24URL: http://sigma.octopart.com:80/conflict_mineral_statement/Yageo-company-3.pdf?src-supplier=Compliance+Statements; ComponentLink24Description: http://sigma.octopart.com:80/conflict_mineral_statement/Yageo-company-3.pdf?src-supplier=Compliance+Statements; ComponentLink25URL: http://sigma.octopart.com:80/rohs_statement/Yageo-company-2.pdf?src-supplier=Compliance+Statements; ComponentLink25Description: http://sigma.octopart.com:80/rohs_statement/Yageo-company-2.pdf?src-supplier=Compliance+Statements; Supplier 1: DigiKey; Supplier Part Number 1: 311-10.0KHRTR-ND
pins: 1, 2

## RC0603FR-07200KL-200kohm
designator R?
100mW Thick Film Resistors 75V ±100ppm/℃ ±5% 200kΩ 0603 Chip Resistor - Surface Mount ROHS; Manufacturer: Yageo Group; Manufacturer Part Number: RC0603JR-07200KL; Temperature Coefficient: 100ppm/°C; Voltage Rating: 50V; Supplier: DigiKey; Supplier Part Number: 311-200KGRTR-ND; RoHS: Compliant; Category: Chip SMD Resistors; Stock: 765946; Pricing: 5000=0.00407, 10000=0.00357, 15000=0.00333, 25000=0.00307, 35000=0.00292, 50000=0.00278 (USD); Case/Package: 0603; Case Code (Imperial): 0603; China RoHS: Non-Compliant; Composition: Thick Film; Contact Plating: Tin; Country of Origin: Mainland China, Taiwan; Depth: 800µm; Export Control Classification Number (ECCN) Code: EAR99; Height: 450µm; Harmonized Tariff Schedule (HTS) Code: 8533.21.00.30; Introduction Date: 2004-09-22; Lead Free: Lead Free; Length: 1.6mm; Lifecycle Status: Production; Max Operating Temperature: 155°C; Military Standard: Not; Min Operating Temperature: -55°C; Mounting Technology: Surface Mount; Pins: 2; Number of Terminals: 2; Power Rating: 100mW; Radiation Hardening: No; REACH SVHC: Yes; Value: 200kΩ; Schedule B: 8533210045, 8533210045|8533210045, 8533210045|8533210045|8533210045, 8533210045|8533210045|8533210045|8533210045; Termination: SMD/SMT; Tolerance: 5%; Voltage Rating (DC): 50V; Width: 800µm; Working Voltage: 75V; ComponentLink1URL: https://datasheet.octopart.com:443/RC0603JR-07200KL-Yageo-datasheet-175887523.pdf?src-supplier=IHS; ComponentLink1Description: https://datasheet.octopart.com:443/RC0603JR-07200KL-Yageo-datasheet-175887523.pdf?src-supplier=IHS; ComponentLink2URL: https://datasheet.octopart.com:443/RC0603JR-07200KL-Yageo-datasheet-98239111.pdf?src-supplier=Upverter; ComponentLink2Description: https://datasheet.octopart.com:443/RC0603JR-07200KL-Yageo-datasheet-98239111.pdf?src-supplier=Upverter; ComponentLink3URL: https://datasheet.octopart.com:443/RC0603JR-07200KL-Yageo-datasheet-8328172.pdf?src-supplier=TME; ComponentLink3Description: https://datasheet.octopart.com:443/RC0603JR-07200KL-Yageo-datasheet-8328172.pdf?src-supplier=TME; ComponentLink4URL: https://datasheet.octopart.com:443/RC0603JR-07200KL-Yageo-datasheet-176638170.pdf?src-supplier=Future+Electronics; ComponentLink4Description: https://datasheet.octopart.com:443/RC0603JR-07200KL-Yageo-datasheet-176638170.pdf?src-supplier=Future+Electronics; ComponentLink5URL: https://datasheet.octopart.com:443/RC0603JR-07200KL-Yageo-datasheet-164759695.pdf?src-supplier=Future+Electronics; ComponentLink5Description: https://datasheet.octopart.com:443/RC0603JR-07200KL-Yageo-datasheet-164759695.pdf?src-supplier=Future+Electronics; ComponentLink6URL: https://datasheet.octopart.com:443/RC0603JR-07200KL-Yageo-datasheet-137700087.pdf?src-supplier=Future+Electronics; ComponentLink6Description: https://datasheet.octopart.com:443/RC0603JR-07200KL-Yageo-datasheet-137700087.pdf?src-supplier=Future+Electronics; ComponentLink7URL: https://datasheet.octopart.com:443/RC0603JR-07200KL-Yageo-datasheet-15599030.pdf?src-supplier=Future+Electronics; ComponentLink7Description: https://datasheet.octopart.com:443/RC0603JR-07200KL-Yageo-datasheet-15599030.pdf?src-supplier=Future+Electronics; ComponentLink8URL: https://datasheet.octopart.com:443/RC0603JR-07200KL-Yageo-datasheet-12596169.pdf?src-supplier=Future+Electronics; ComponentLink8Description: https://datasheet.octopart.com:443/RC0603JR-07200KL-Yageo-datasheet-12596169.pdf?src-supplier=Future+Electronics; ComponentLink9URL: https://datasheet.octopart.com:443/RC0603JR-07200KL-Yageo-datasheet-8324193.pdf?src-supplier=Future+Electronics; ComponentLink9Description: https://datasheet.octopart.com:443/RC0603JR-07200KL-Yageo-datasheet-8324193.pdf?src-supplier=Future+Electronics; ComponentLink10URL: https://datasheet.octopart.com:443/RC0603JR-07200KL-Yageo-datasheet-34211833.pdf?src-supplier=element14+APAC; ComponentLink10Description: https://datasheet.octopart.com:443/RC0603JR-07200KL-Yageo-datasheet-34211833.pdf?src-supplier=element14+APAC; ComponentLink11URL: https://datasheet.octopart.com:443/RC0603JR-07200KL-Yageo-datasheet-62067350.pdf?src-supplier=Farnell; ComponentLink11Description: https://datasheet.octopart.com:443/RC0603JR-07200KL-Yageo-datasheet-62067350.pdf?src-supplier=Farnell; ComponentLink12URL: https://datasheet.octopart.com/RC0603JR-07200KL-Yageo-datasheet-73766026.pdf; ComponentLink12Description: https://datasheet.octopart.com/RC0603JR-07200KL-Yageo-datasheet-73766026.pdf; ComponentLink13URL: https://datasheet.octopart.com:443/RC0603JR-07200KL-Yageo-datasheet-30459151.pdf?src-supplier=Seeed+Studio; ComponentLink13Description: https://datasheet.octopart.com:443/RC0603JR-07200KL-Yageo-datasheet-30459151.pdf?src-supplier=Seeed+Studio; ComponentLink14URL: https://datasheet.octopart.com:443/RC0603JR-07200KL-Yageo-datasheet-118562.pdf?src-supplier=DigiKey; ComponentLink14Description: https://datasheet.octopart.com:443/RC0603JR-07200KL-Yageo-datasheet-118562.pdf?src-supplier=DigiKey; ComponentLink15URL: http://sigma.octopart.com:80/conflict_mineral_statement/Yageo-company-3.pdf?src-supplier=Compliance+Statements; ComponentLink15Description: http://sigma.octopart.com:80/conflict_mineral_statement/Yageo-company-3.pdf?src-supplier=Compliance+Statements; ComponentLink16URL: http://sigma.octopart.com:80/rohs_statement/Yageo-company-2.pdf?src-supplier=Compliance+Statements; ComponentLink16Description: http://sigma.octopart.com:80/rohs_statement/Yageo-company-2.pdf?src-supplier=Compliance+Statements; Supplier 1: DigiKey; Supplier Part Number 1: 311-200KGRTR-ND
footprint RC0603JR-07200KL-200kohm Thick film resistor.
pins: 1, 2

## RC0603JR-07120KL
designator R?, comment RC0603JR-07120KL -120 K ohm
100mW Thick Film Resistors 75V ±100ppm/℃ ±5% 120kΩ 0603 Chip Resistor - Surface Mount ROHS; Manufacturer: Yageo Group; Temperature Coefficient: 100ppm/°C; Voltage Rating: 50V; Supplier: DigiKey; Supplier Part Number: 311-120KGRCT-ND; Manufacturer Part Number: RC0603JR-07120KL; RoHS: Compliant; Category: Chip SMD Resistors; Stock: 431573; Pricing: 1=0.1, 10=0.023, 25=0.0168, 50=0.0134, 100=0.0108, 250=0.00832, 500=0.0069, 1000=0.00581 (USD); Case/Package: 0603; Case Code (Imperial): 0603; China RoHS: Non-Compliant; Composition: Thick Film; Contact Plating: Tin; Depth: 800µm; Features: Moisture Resistant; Height: 450µm; Lead Free: Lead Free; Length: 1.6mm; Lifecycle Status: Production; Max Operating Temperature: 155°C; Max Power Dissipation: 100mW; Military Standard: Not; Min Operating Temperature: -55°C; Mounting Technology: Surface Mount; Pins: 2; Number of Terminals: 2; Number of Terminations: 2; Packaging: Cut Tape; Power Rating: 100mW; Radiation Hardening: No; REACH SVHC: Yes; Value: 120kΩ; Schedule B: 8533210045, 8533210045|8533210045, 8533210045|8533210045|8533210045, 8533210045|8533210045|8533210045|8533210045; Termination: SMD/SMT; Tolerance: 5%; Voltage Rating (AC): 50V; Voltage Rating (DC): 50V; Width: 800µm; Working Voltage: 75V; ComponentLink1URL: https://datasheet.octopart.com:443/RC0603JR-07120KL-Yageo-datasheet-175887523.pdf?src-supplier=IHS; ComponentLink1Description: https://datasheet.octopart.com:443/RC0603JR-07120KL-Yageo-datasheet-175887523.pdf?src-supplier=IHS; ComponentLink2URL: https://datasheet.octopart.com:443/RC0603JR-07120KL-Yageo-Group-datasheet-190305687.pdf?src-supplier=Newark; ComponentLink2Description: https://datasheet.octopart.com:443/RC0603JR-07120KL-Yageo-Group-datasheet-190305687.pdf?src-supplier=Newark; ComponentLink3URL: https://datasheet.octopart.com:443/RC0603JR-07120KL-Yageo-datasheet-8328172.pdf?src-supplier=Newark; ComponentLink3Description: https://datasheet.octopart.com:443/RC0603JR-07120KL-Yageo-datasheet-8328172.pdf?src-supplier=Newark; ComponentLink4URL: https://datasheet.octopart.com:443/RC0603JR-07120KL-Yageo-datasheet-34211833.pdf?src-supplier=Newark; ComponentLink4Description: https://datasheet.octopart.com:443/RC0603JR-07120KL-Yageo-datasheet-34211833.pdf?src-supplier=Newark; ComponentLink5URL: https://datasheet.octopart.com:443/RC0603JR-07120KL-Yageo-datasheet-62067350.pdf?src-supplier=Newark; ComponentLink5Description: https://datasheet.octopart.com:443/RC0603JR-07120KL-Yageo-datasheet-62067350.pdf?src-supplier=Newark; ComponentLink6URL: https://datasheet.octopart.com:443/RC0603JR-07120KL-Yageo-Group-datasheet-176638170.pdf?src-supplier=Farnell; ComponentLink6Description: https://datasheet.octopart.com:443/RC0603JR-07120KL-Yageo-Group-datasheet-176638170.pdf?src-supplier=Farnell; ComponentLink7URL: https://datasheet.octopart.com:443/RC0603JR-07120KL-Yageo-datasheet-164759695.pdf?src-supplier=Future+Electronics; ComponentLink7Description: https://datasheet.octopart.com:443/RC0603JR-07120KL-Yageo-datasheet-164759695.pdf?src-supplier=Future+Electronics; ComponentLink8URL: https://datasheet.octopart.com:443/RC0603JR-07120KL-Yageo-datasheet-137700087.pdf?src-supplier=Future+Electronics; ComponentLink8Description: https://datasheet.octopart.com:443/RC0603JR-07120KL-Yageo-datasheet-137700087.pdf?src-supplier=Future+Electronics; ComponentLink9URL: https://datasheet.octopart.com:443/RC0603JR-07120KL-Yageo-datasheet-27584510.pdf?src-supplier=Future+Electronics; ComponentLink9Description: https://datasheet.octopart.com:443/RC0603JR-07120KL-Yageo-datasheet-27584510.pdf?src-supplier=Future+Electronics; ComponentLink10URL: https://datasheet.octopart.com:443/RC0603JR-07120KL-Yageo-datasheet-15599030.pdf?src-supplier=Future+Electronics; ComponentLink10Description: https://datasheet.octopart.com:443/RC0603JR-07120KL-Yageo-datasheet-15599030.pdf?src-supplier=Future+Electronics; ComponentLink11URL: https://datasheet.octopart.com:443/RC0603JR-07120KL-Yageo-datasheet-12596169.pdf?src-supplier=Future+Electronics; ComponentLink11Description: https://datasheet.octopart.com:443/RC0603JR-07120KL-Yageo-datasheet-12596169.pdf?src-supplier=Future+Electronics; ComponentLink12URL: https://datasheet.octopart.com:443/RC0603JR-07120KL-Yageo-datasheet-8324193.pdf?src-supplier=Future+Electronics; ComponentLink12Description: https://datasheet.octopart.com:443/RC0603JR-07120KL-Yageo-datasheet-8324193.pdf?src-supplier=Future+Electronics; ComponentLink13URL: https://datasheet.octopart.com/RC0603JR-07120KL-Yageo-datasheet-73766026.pdf; ComponentLink13Description: https://datasheet.octopart.com/RC0603JR-07120KL-Yageo-datasheet-73766026.pdf; ComponentLink14URL: https://datasheet.octopart.com:443/RC0603JR-07120KL-Yageo-datasheet-118562.pdf?src-supplier=DigiKey; ComponentLink14Description: https://datasheet.octopart.com:443/RC0603JR-07120KL-Yageo-datasheet-118562.pdf?src-supplier=DigiKey; ComponentLink15URL: http://sigma.octopart.com:80/conflict_mineral_statement/Yageo-company-3.pdf?src-supplier=Compliance+Statements; ComponentLink15Description: http://sigma.octopart.com:80/conflict_mineral_statement/Yageo-company-3.pdf?src-supplier=Compliance+Statements; ComponentLink16URL: http://sigma.octopart.com:80/rohs_statement/Yageo-company-2.pdf?src-supplier=Compliance+Statements; ComponentLink16Description: http://sigma.octopart.com:80/rohs_statement/Yageo-company-2.pdf?src-supplier=Compliance+Statements; Supplier 1: DigiKey; Supplier Part Number 1: 311-120KGRDKR-ND
footprint RC0603JR-07120KL-120kohm (120 kOhms ±5% 0.1W, 1/10W Chip Resistor 0603 (1608 Metric) Moisture Resistant Thick Film)
pins: 1, 2

## RG1608N-472-W-T1
designator R?, comment RG1608N-472-W-T1-4.7Kohm
Res Thin Film 0603 4.7K Ohm 0.05% 0.1W(1/10W) ±10ppm/C Pad SMD Automotive Medical T/R; Manufacturer: Susumu; Max Power Dissipation: 100mW; Value: 4.7kΩ; Temperature Coefficient: 10ppm/°C; Voltage Rating: 75V; Supplier: DigiKey; Supplier Part Number: RG16N4.7KWDKR-ND; Manufacturer Part Number: RG1608N-472-W-T1; RoHS: Compliant; Category: Chip SMD Resistors; Stock: 5877; Pricing: 1=0.6, 10=0.499, 25=0.4624, 50=0.4368, 100=0.4133, 250=0.38512, 500=0.36608 (USD); Case/Package: 0603; Case Code (Imperial): 0603; Case Code (Metric): 1608; Composition: Metal Film; Country of Origin: Mainland China, Japan; Export Control Classification Number (ECCN) Code: EAR99; Features: Automotive AEC-Q200; Height: 400µm; Harmonized Tariff Schedule (HTS) Code: 8533.21.00.30; Introduction Date: 2006-03-30; Lead Free: Lead Free; Length: 1.6mm; Lifecycle Status: Obsolete; LTB Date: 2011-09-30; LTD Date: 2011-10-31; Max Operating Temperature: 155°C; Min Operating Temperature: -55°C; Mounting Technology: Surface Mount; Number of Terminals: 2; Number of Terminations: 2; Packaging: Cut Tape; Power Rating: 100mW; Schedule B: 8533210045, 8533210045|8533210045|8533210045|8533210045|8533210045; Termination: SMD/SMT; Tolerance: 0.05%; Voltage Rating (DC): 75V; Width: 800µm; Working Voltage: 75V; ComponentLink1URL: https://datasheet.octopart.com:443/RG1608N-472-W-T1-Susumu-datasheet-12510102.pdf?src-supplier=Upverter; ComponentLink1Description: https://datasheet.octopart.com:443/RG1608N-472-W-T1-Susumu-datasheet-12510102.pdf?src-supplier=Upverter; ComponentLink2URL: https://datasheet.octopart.com:443/RG1608N-472-W-T1-Susumu-datasheet-17595413.pdf?src-supplier=IHS; ComponentLink2Description: https://datasheet.octopart.com:443/RG1608N-472-W-T1-Susumu-datasheet-17595413.pdf?src-supplier=IHS; ComponentLink3URL: https://datasheet.octopart.com/RG1608N-472-W-T1-Susumu-datasheet-12509734.pdf; ComponentLink3Description: https://datasheet.octopart.com/RG1608N-472-W-T1-Susumu-datasheet-12509734.pdf; ComponentLink4URL: https://datasheet.octopart.com:443/RG1608N-472-W-T1-Susumu-datasheet-118552.pdf?src-supplier=DigiKey; ComponentLink4Description: https://datasheet.octopart.com:443/RG1608N-472-W-T1-Susumu-datasheet-118552.pdf?src-supplier=DigiKey; Supplier 1: DigiKey; Supplier Part Number 1: RG16N4.7KWDKR-ND
footprint RG1608N-472-W-T1-4.7kohm. (Chip Resistor, 2-Leads, Body 1.70x0.90mm, IPC Medium Density)
pins: 1, 2